# EAGLE library part ADAFRUIT-OLED-1.3 (library oled)
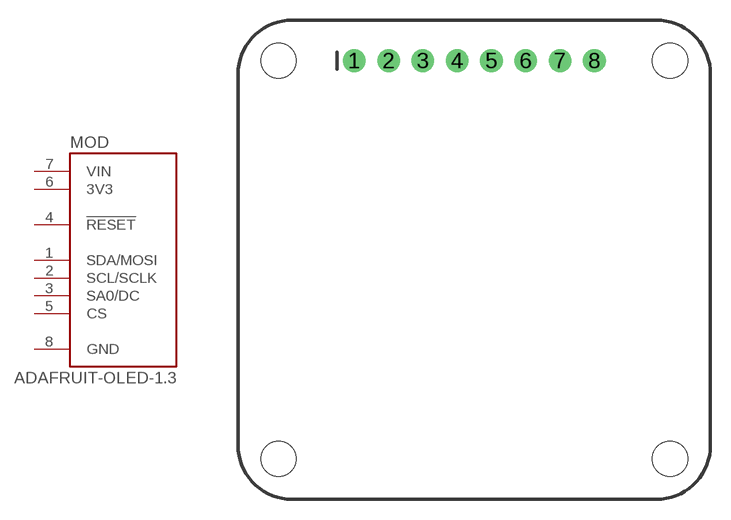
[diagram p0: symbol with the pads of ADAFRUIT-OLED-1.3; footprint ADAFRUIT-OLED-1.3]

Designator prefix MOD

## ADAFRUIT-OLED-1.3  [ADAFRUIT-OLED-1.3]
1  SDA/MOSI
2  SCL/SCLK
3  SA0/DC
4  !RESET
5  CS
6  3V3
7  VIN
8  GND

## Footprint ADAFRUIT-OLED-1.3 (pad centres in mm)
drill 0.9 pad 1.676 round: 1 -8.89,0; 2 -6.35,0; 3 -3.81,0; 4 -1.27,0; 5 1.27,0; 6 3.81,0; 7 6.35,0; 8 8.89,0
hole 2.6 at -14.5,0
hole 2.6 at 14.5,0
hole 2.6 at -14.5,-29.5
hole 2.6 at 14.5,-29.5